# Altium schematic symbol library N_N-MOSFET-6L.SchLib: 1 symbol
Pins are listed as number, name and electrical type; pins without a type are passive.

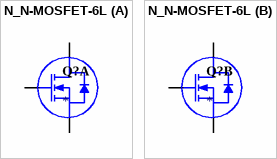
[diagram p0: symbol N_N-MOSFET-6L]

## N_N-MOSFET-6L
designator Q?
part A pins: 1 S1, 2 G1, 6 D1
part B pins: 3 D2, 4 S2, 5 G2